# Altium integrated library Molex Modular Jack Right Angle.IntLib: 395 symbols (part 7 of 9)
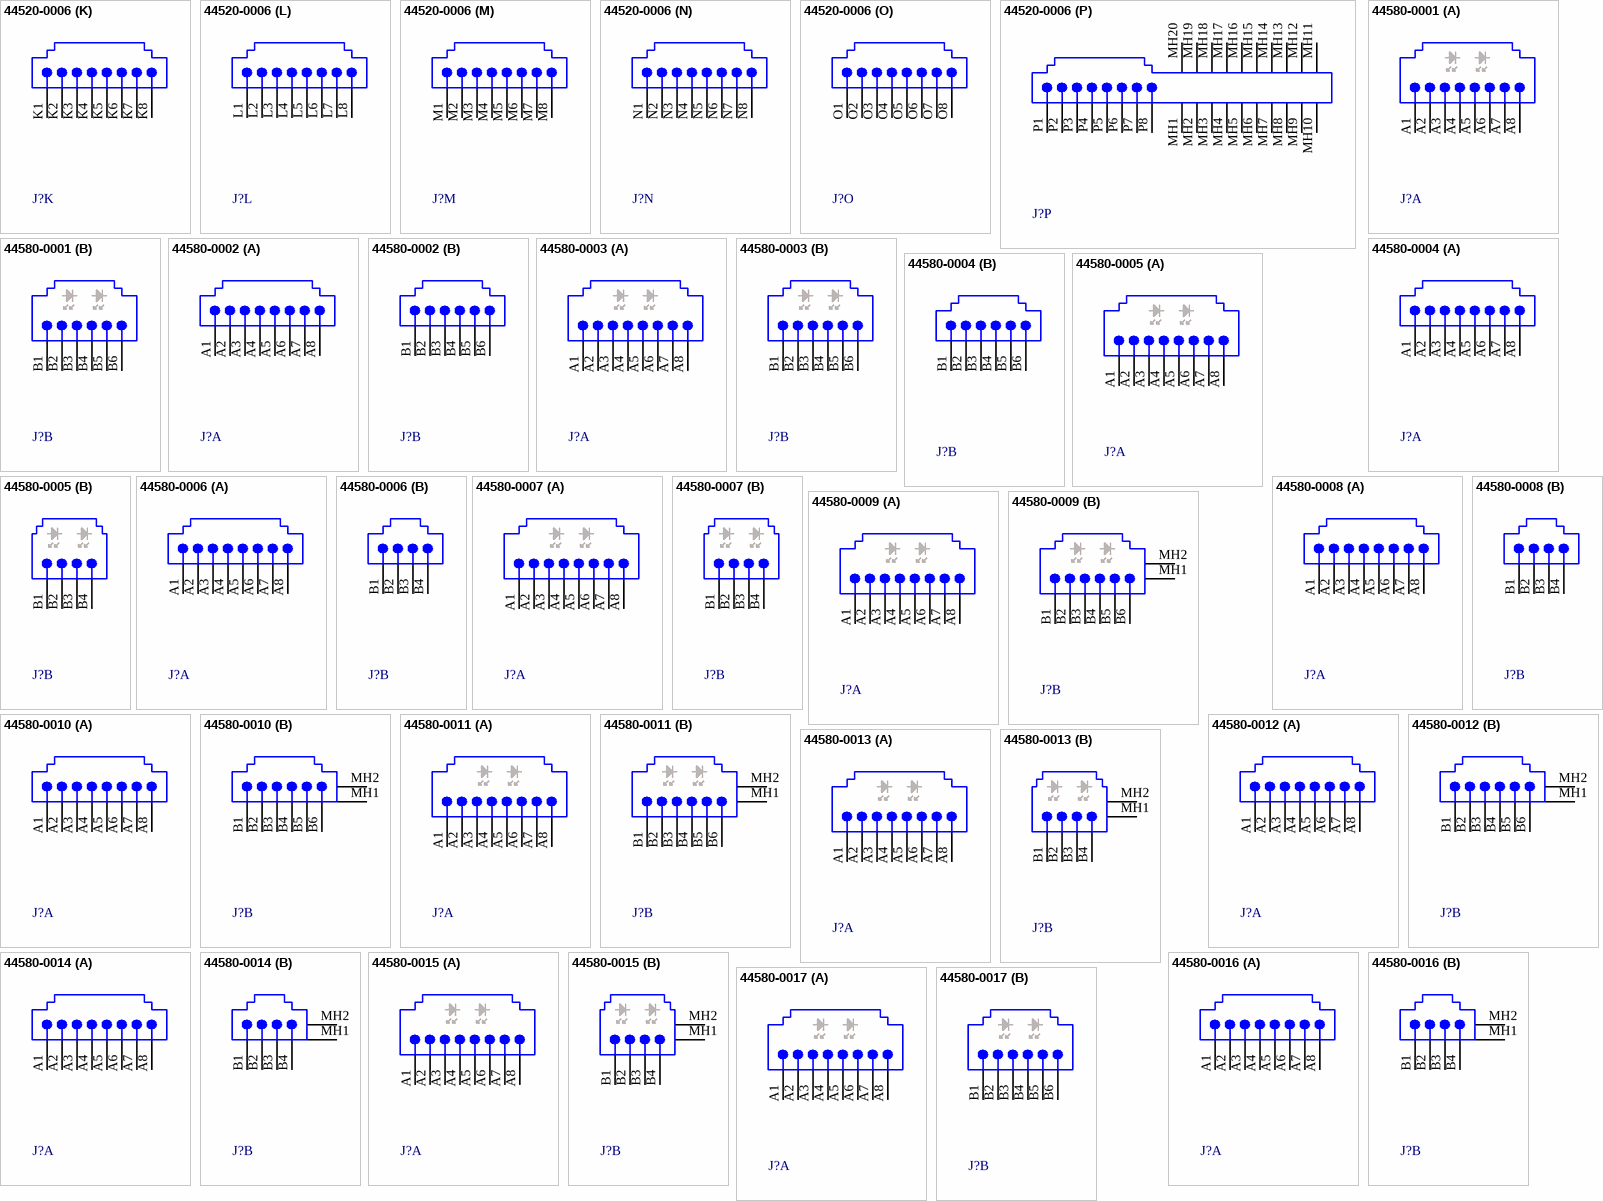
[diagram p30: symbols 44520-0006 to 44580-0017]

## 44580-0001
designator J?
Ganged, Right Angle, Low Profile Inverted, RJ-45/RJ-11 Combination, Snap-Fit, Unshielded with Lightpipes Modular Jack; ManufacturerRecommends: LED Package type 0805 or 0603; Ports: 2; Positions/Loaded: Port1 - 8/8, Port2 - 6/6; PerformanceCategory: 5; PCB_Mounting: Thru-Hole; PCB_Layout: Shows Position of Manufacturer's Recommended SMT LED, Package Type 0805 shown on Mechanical Layer 1.; DrillSize: Nominal, Rounded to nearest 0.05mm; PCB_Layout: Complies with Manufacturer's Recommendation.; Published: 25-Jun-2002; DatasheetDocument: 28-Nov-2001; PackageDocument: 28-Nov-2001; PackageReference: 44580-0001; Publisher: Altium Limited; ComponentLink1Description: Manufacturer Link; ComponentLink1URL: http://www.molex.com/; ComponentLink2Description: Datasheet; ComponentLink2URL: http://www.molex.com/cmc_upload/common_files/1212003_mx44580b.pdf; ComponentLink3Description: Iges Model; ComponentLink3URL: http://www.molex.com/pdm_docs/igs/44580-0001_igs.zip
footprint 44580-0001 (Connector; PCB Jack, Thru-Hole; 2-Port; Unshielded with Lightpipes; Right Angle)
signal-integrity model Modular Jack
part A pins: A1, A2, A3, A4, A5, A6, A7, A8
part B pins: B1, B2, B3, B4, B5, B6

## 44580-0002
designator J?
Ganged, Right Angle, Low Profile Inverted, RJ-45/RJ-11 Combination, Snap-Fit, Unshielded, Modular Jack; Ports: 2; Positions/Loaded: Port1 - 8/8, Port2 - 6/6; PerformanceCategory: 5; PCB_Mounting: Thru-Hole; DrillSize: Nominal, Rounded to nearest 0.05mm; PCB_Layout: Complies with Manufacturer's Recommendation.; Published: 25-Jun-2002; DatasheetDocument: 28-Nov-2001; PackageDocument: 28-Nov-2001; PackageReference: 44580-0002; Publisher: Altium Limited; ComponentLink1Description: Manufacturer Link; ComponentLink1URL: http://www.molex.com/; ComponentLink2Description: Datasheet; ComponentLink2URL: http://www.molex.com/cmc_upload/common_files/1212003_bi0vgsuk_ps.pdf
footprint 44580-0002 (Connector; PCB Jack, Thru-Hole; 2-Port; Unshielded without Lightpipes; Right Angle)
signal-integrity model Modular Jack
part A pins: A1, A2, A3, A4, A5, A6, A7, A8
part B pins: B1, B2, B3, B4, B5, B6

## 44580-0003
designator J?
Ganged, Right Angle, Low Profile Inverted, RJ-45/RJ-11 Combination, Press-Fit, Unshielded with Lightpipes Modular Jack; ManufacturerRecommends: LED Package type 0805 or 0603; Ports: 2; Positions/Loaded: Port1 - 8/8, Port2 - 6/6; PerformanceCategory: 5; PCB_Mounting: Thru-Hole; PCB_Layout: Shows Position of Manufacturer's Recommended SMT LED, Package Type 0805 shown on Mechanical Layer 1.; DrillSize: Nominal, Rounded to nearest 0.05mm; PCB_Layout: Complies with Manufacturer's Recommendation.; Published: 25-Jun-2002; DatasheetDocument: 28-Nov-2001; PackageDocument: 28-Nov-2001; PackageReference: 44580-0003; Publisher: Altium Limited; ComponentLink1Description: Manufacturer Link; ComponentLink1URL: http://www.molex.com/; ComponentLink2Description: Datasheet; ComponentLink2URL: http://www.molex.com/cmc_upload/common_files/1212003_mx44580b.pdf; ComponentLink3Description: Iges Model; ComponentLink3URL: http://www.molex.com/pdm_docs/igs/44580-0001_igs.zip
footprint 44580-0003 (Connector; PCB Jack, Thru-Hole; 2-Port; Unshielded with Lightpipes; Right Angle)
signal-integrity model Modular Jack
part A pins: A1, A2, A3, A4, A5, A6, A7, A8
part B pins: B1, B2, B3, B4, B5, B6

## 44580-0004
designator J?
Ganged, Right Angle, Low Profile Inverted, RJ-45/RJ-11 Combination, Press-Fit, Unshielded, Modular Jack; Ports: 2; Positions/Loaded: Port1 - 8/8, Port2 - 6/6; PerformanceCategory: 5; PCB_Mounting: Thru-Hole; DrillSize: Nominal, Rounded to nearest 0.05mm; PCB_Layout: Complies with Manufacturer's Recommendation.; Published: 25-Jun-2002; DatasheetDocument: 28-Nov-2001; PackageDocument: 28-Nov-2001; PackageReference: 44580-0004; Publisher: Altium Limited; ComponentLink1Description: Manufacturer Link; ComponentLink1URL: http://www.molex.com/; ComponentLink2Description: Datasheet; ComponentLink2URL: http://www.molex.com/cmc_upload/common_files/1212003_bi0vgsuk_ps.pdf
footprint 44580-0004 (Connector; PCB Jack, Thru-Hole; 2-Port; Unshielded without Lightpipes; Right Angle)
signal-integrity model Modular Jack
part A pins: A1, A2, A3, A4, A5, A6, A7, A8
part B pins: B1, B2, B3, B4, B5, B6

## 44580-0005
designator J?
Ganged, Right Angle, Low Profile Inverted, RJ-45/RJ-11 Combination, Snap-Fit, Unshielded with Lightpipes Modular Jack; ManufacturerRecommends: LED Package type 0805 or 0603; Ports: 2; Positions/Loaded: Port1 - 8/8, Port2 - 6/4; PerformanceCategory: 5; PCB_Mounting: Thru-Hole; PCB_Layout: Shows Position of Manufacturer's Recommended SMT LED, Package Type 0805 shown on Mechanical Layer 1.; DrillSize: Nominal, Rounded to nearest 0.05mm; PCB_Layout: Complies with Manufacturer's Recommendation.; Published: 25-Jun-2002; DatasheetDocument: 28-Nov-2001; PackageDocument: 28-Nov-2001; PackageReference: 44580-0005; Publisher: Altium Limited; ComponentLink1Description: Manufacturer Link; ComponentLink1URL: http://www.molex.com/; ComponentLink2Description: Datasheet; ComponentLink2URL: http://www.molex.com/cmc_upload/common_files/1212003_mx44580b.pdf; ComponentLink3Description: Iges Model; ComponentLink3URL: http://www.molex.com/pdm_docs/igs/44580-0001_igs.zip
footprint 44580-0005 (Connector; PCB Jack, Thru-Hole; 2-Port; Unshielded with Lightpipes; Right Angle)
signal-integrity model Modular Jack
part A pins: A1, A2, A3, A4, A5, A6, A7, A8
part B pins: B1, B2, B3, B4

## 44580-0006
designator J?
Ganged, Right Angle, Low Profile Inverted, RJ-45/RJ-11 Combination, Snap-Fit, Unshielded, Modular Jack; Ports: 2; Positions/Loaded: Port1 - 8/8, Port2 - 6/4; PerformanceCategory: 5; PCB_Mounting: Thru-Hole; DrillSize: Nominal, Rounded to nearest 0.05mm; PCB_Layout: Complies with Manufacturer's Recommendation.; Published: 25-Jun-2002; DatasheetDocument: 28-Nov-2001; PackageDocument: 28-Nov-2001; PackageReference: 44580-0006; Publisher: Altium Limited; ComponentLink1Description: Manufacturer Link; ComponentLink1URL: http://www.molex.com/; ComponentLink2Description: Datasheet; ComponentLink2URL: http://www.molex.com/cmc_upload/common_files/1212003_bi0vgsuk_ps.pdf
footprint 44580-0006 (Connector; PCB Jack, Thru-Hole; 2-Port; Unshielded without Lightpipes; Right Angle)
signal-integrity model Modular Jack
part A pins: A1, A2, A3, A4, A5, A6, A7, A8
part B pins: B1, B2, B3, B4

## 44580-0007
designator J?
Ganged, Right Angle, Low Profile Inverted, RJ-45/RJ-11 Combination, Press-Fit, Unshielded with Lightpipes Modular Jack; ManufacturerRecommends: LED Package type 0805 or 0603; Ports: 2; Positions/Loaded: Port1 - 8/8, Port2 - 6/4; PerformanceCategory: 5; PCB_Mounting: Thru-Hole; PCB_Layout: Shows Position of Manufacturer's Recommended SMT LED, Package Type 0805 shown on Mechanical Layer 1.; DrillSize: Nominal, Rounded to nearest 0.05mm; PCB_Layout: Complies with Manufacturer's Recommendation.; Published: 25-Jun-2002; DatasheetDocument: 28-Nov-2001; PackageDocument: 28-Nov-2001; PackageReference: 44580-0007; Publisher: Altium Limited; ComponentLink1Description: Manufacturer Link; ComponentLink1URL: http://www.molex.com/; ComponentLink2Description: Datasheet; ComponentLink2URL: http://www.molex.com/cmc_upload/common_files/1212003_mx44580b.pdf; ComponentLink3Description: Iges Model; ComponentLink3URL: http://www.molex.com/pdm_docs/igs/44580-0001_igs.zip
footprint 44580-0007 (Connector; PCB Jack, Thru-Hole; 2-Port; Unshielded with Lightpipes; Right Angle)
signal-integrity model Modular Jack
part A pins: A1, A2, A3, A4, A5, A6, A7, A8
part B pins: B1, B2, B3, B4

## 44580-0008
designator J?
Ganged, Right Angle, Low Profile Inverted, RJ-45/RJ-11 Combination, Press-Fit, Unshielded, Modular Jack; Ports: 2; Positions/Loaded: Port1 - 8/8, Port2 - 6/4; PerformanceCategory: 5; PCB_Mounting: Thru-Hole; DrillSize: Nominal, Rounded to nearest 0.05mm; PCB_Layout: Complies with Manufacturer's Recommendation.; Published: 25-Jun-2002; DatasheetDocument: 28-Nov-2001; PackageDocument: 28-Nov-2001; PackageReference: 44580-0008; Publisher: Altium Limited; ComponentLink1Description: Manufacturer Link; ComponentLink1URL: http://www.molex.com/; ComponentLink2Description: Datasheet; ComponentLink2URL: http://www.molex.com/cmc_upload/common_files/1212003_bi0vgsuk_ps.pdf
footprint 44580-0008 (Connector; PCB Jack, Thru-Hole; 2-Port; Unshielded without Lightpipes; Right Angle)
signal-integrity model Modular Jack
part A pins: A1, A2, A3, A4, A5, A6, A7, A8
part B pins: B1, B2, B3, B4

## 44580-0009
designator J?
Ganged, Right Angle, Low Profile Inverted, RJ-45/RJ-11 Combination, Snap-Fit, Shielded with Lightpipes Modular Jack; ManufacturerRecommends: LED Package type 0805 or 0603; Ports: 2; Positions/Loaded: Port1 - 8/8, Port2 - 6/6; PerformanceCategory: 5; PCB_Mounting: Thru-Hole; PCB_Layout: Shows Position of Manufacturer's Recommended SMT LED, Package Type 0805 shown on Mechanical Layer 1.; DrillSize: Nominal, Rounded to nearest 0.05mm; PCB_Layout: Complies with Manufacturer's Recommendation.; Published: 25-Jun-2002; DatasheetDocument: 28-Nov-2001; PackageDocument: 28-Nov-2001; PackageReference: 44580-0009; Publisher: Altium Limited; ComponentLink1Description: Manufacturer Link; ComponentLink1URL: http://www.molex.com/; ComponentLink2Description: Datasheet; ComponentLink2URL: http://www.molex.com/cmc_upload/common_files/1212003_mx44580b.pdf; ComponentLink3Description: Iges Model; ComponentLink3URL: http://www.molex.com/pdm_docs/igs/44580-0001_igs.zip
footprint 44580-0009 (Connector; PCB Jack, Thru-Hole; 2-Port; Shielded with Lightpipes; Right Angle)
signal-integrity model Modular Jack
part A pins: A1, A2, A3, A4, A5, A6, A7, A8
part B pins: B1, B2, B3, B4, B5, B6, MH1 Shield, MH2 Shield

## 44580-0010
designator J?
Ganged, Right Angle, Low Profile Inverted, RJ-45/RJ-11 Combination, Snap-Fit, Shielded, Modular Jack; Ports: 2; Positions/Loaded: Port1 - 8/8, Port2 - 6/6; PerformanceCategory: 5; PCB_Mounting: Thru-Hole; DrillSize: Nominal, Rounded to nearest 0.05mm; PCB_Layout: Complies with Manufacturer's Recommendation.; Published: 25-Jun-2002; DatasheetDocument: 28-Nov-2001; PackageDocument: 28-Nov-2001; PackageReference: 44580-0010; Publisher: Altium Limited; ComponentLink1Description: Manufacturer Link; ComponentLink1URL: http://www.molex.com/; ComponentLink2Description: Datasheet; ComponentLink2URL: http://www.molex.com/cmc_upload/common_files/1212003_bi0vgsuk_ps.pdf
footprint 44580-0010 (Connector; PCB Jack, Thru-Hole; 2-Port; Shielded without Lightpipes; Right Angle)
signal-integrity model Modular Jack
part A pins: A1, A2, A3, A4, A5, A6, A7, A8
part B pins: B1, B2, B3, B4, B5, B6, MH1 Shield, MH2 Shield

## 44580-0011
designator J?
Ganged, Right Angle, Low Profile Inverted, RJ-45/RJ-11 Combination, Press-Fit, Shielded with Lightpipes Modular Jack; ManufacturerRecommends: LED Package type 0805 or 0603; Ports: 2; Positions/Loaded: Port1 - 8/8, Port2 - 6/6; PerformanceCategory: 5; PCB_Mounting: Thru-Hole; PCB_Layout: Shows Position of Manufacturer's Recommended SMT LED, Package Type 0805 shown on Mechanical Layer 1.; DrillSize: Nominal, Rounded to nearest 0.05mm; PCB_Layout: Complies with Manufacturer's Recommendation.; Published: 25-Jun-2002; DatasheetDocument: 28-Nov-2001; PackageDocument: 28-Nov-2001; PackageReference: 44580-0011; Publisher: Altium Limited; ComponentLink1Description: Manufacturer Link; ComponentLink1URL: http://www.molex.com/; ComponentLink2Description: Datasheet; ComponentLink2URL: http://www.molex.com/cmc_upload/common_files/1212003_mx44580b.pdf; ComponentLink3Description: Iges Model; ComponentLink3URL: http://www.molex.com/pdm_docs/igs/44580-0001_igs.zip
footprint 44580-0011 (Connector; PCB Jack, Thru-Hole; 2-Port; Shielded with Lightpipes; Right Angle)
signal-integrity model Modular Jack
part A pins: A1, A2, A3, A4, A5, A6, A7, A8
part B pins: B1, B2, B3, B4, B5, B6, MH1 Shield, MH2 Shield

## 44580-0012
designator J?
Ganged, Right Angle, Low Profile Inverted, RJ-45/RJ-11 Combination, Press-Fit, Shielded, Modular Jack; Ports: 2; Positions/Loaded: Port1 - 8/8, Port2 - 6/6; PerformanceCategory: 5; PCB_Mounting: Thru-Hole; DrillSize: Nominal, Rounded to nearest 0.05mm; PCB_Layout: Complies with Manufacturer's Recommendation.; Published: 25-Jun-2002; DatasheetDocument: 28-Nov-2001; PackageDocument: 28-Nov-2001; PackageReference: 44580-0012; Publisher: Altium Limited; ComponentLink1Description: Manufacturer Link; ComponentLink1URL: http://www.molex.com/; ComponentLink2Description: Datasheet; ComponentLink2URL: http://www.molex.com/cmc_upload/common_files/1212003_bi0vgsuk_ps.pdf
footprint 44580-0012 (Connector; PCB Jack, Thru-Hole; 2-Port; Shielded without Lightpipes; Right Angle)
signal-integrity model Modular Jack
part A pins: A1, A2, A3, A4, A5, A6, A7, A8
part B pins: B1, B2, B3, B4, B5, B6, MH1 Shield, MH2 Shield

## 44580-0013
designator J?
Ganged, Right Angle, Low Profile Inverted, RJ-45/RJ-11 Combination, Snap-Fit, Shielded with Lightpipes Modular Jack; ManufacturerRecommends: LED Package type 0805 or 0603; Ports: 2; Positions/Loaded: Port1 - 8/8, Port2 - 6/4; PerformanceCategory: 5; PCB_Mounting: Thru-Hole; PCB_Layout: Shows Position of Manufacturer's Recommended SMT LED, Package Type 0805 shown on Mechanical Layer 1.; DrillSize: Nominal, Rounded to nearest 0.05mm; PCB_Layout: Complies with Manufacturer's Recommendation.; Published: 25-Jun-2002; DatasheetDocument: 28-Nov-2001; PackageDocument: 28-Nov-2001; PackageReference: 44580-0013; Publisher: Altium Limited; ComponentLink1Description: Manufacturer Link; ComponentLink1URL: http://www.molex.com/; ComponentLink2Description: Datasheet; ComponentLink2URL: http://www.molex.com/cmc_upload/common_files/1212003_mx44580b.pdf; ComponentLink3Description: Iges Model; ComponentLink3URL: http://www.molex.com/pdm_docs/igs/44580-0001_igs.zip
footprint 44580-0013 (Connector; PCB Jack, Thru-Hole; 2-Port; Shielded with Lightpipes; Right Angle)
signal-integrity model Modular Jack
part A pins: A1, A2, A3, A4, A5, A6, A7, A8
part B pins: B1, B2, B3, B4, MH1 Shield, MH2 Shield

## 44580-0014
designator J?
Ganged, Right Angle, Low Profile Inverted, RJ-45/RJ-11 Combination, Snap-Fit, Shielded, Modular Jack; Ports: 2; Positions/Loaded: Port1 - 8/8, Port2 - 6/4; PerformanceCategory: 5; PCB_Mounting: Thru-Hole; DrillSize: Nominal, Rounded to nearest 0.05mm; PCB_Layout: Complies with Manufacturer's Recommendation.; Published: 25-Jun-2002; DatasheetDocument: 28-Nov-2001; PackageDocument: 28-Nov-2001; PackageReference: 44580-0014; Publisher: Altium Limited; ComponentLink1Description: Manufacturer Link; ComponentLink1URL: http://www.molex.com/; ComponentLink2Description: Datasheet; ComponentLink2URL: http://www.molex.com/cmc_upload/common_files/1212003_bi0vgsuk_ps.pdf
footprint 44580-0014 (Connector; PCB Jack, Thru-Hole; 2-Port; Shielded without Lightpipes; Right Angle)
signal-integrity model Modular Jack
part A pins: A1, A2, A3, A4, A5, A6, A7, A8
part B pins: B1, B2, B3, B4, MH1 Shield, MH2 Shield

## 44580-0015
designator J?
Ganged, Right Angle, Low Profile Inverted, RJ-45/RJ-11 Combination, Press-Fit, Shielded with Lightpipes Modular Jack; ManufacturerRecommends: LED Package type 0805 or 0603; Ports: 2; Positions/Loaded: Port1 - 8/8, Port2 - 6/4; PerformanceCategory: 5; PCB_Mounting: Thru-Hole; PCB_Layout: Shows Position of Manufacturer's Recommended SMT LED, Package Type 0805 shown on Mechanical Layer 1.; DrillSize: Nominal, Rounded to nearest 0.05mm; PCB_Layout: Complies with Manufacturer's Recommendation.; Published: 25-Jun-2002; DatasheetDocument: 28-Nov-2001; PackageDocument: 28-Nov-2001; PackageReference: 44580-0015; Publisher: Altium Limited; ComponentLink1Description: Manufacturer Link; ComponentLink1URL: http://www.molex.com/; ComponentLink2Description: Datasheet; ComponentLink2URL: http://www.molex.com/cmc_upload/common_files/1212003_mx44580b.pdf; ComponentLink3Description: Iges Model; ComponentLink3URL: http://www.molex.com/pdm_docs/igs/44580-0001_igs.zip
footprint 44580-0015 (Connector; PCB Jack, Thru-Hole; 2-Port; Shielded with Lightpipes; Right Angle)
signal-integrity model Modular Jack
part A pins: A1, A2, A3, A4, A5, A6, A7, A8
part B pins: B1, B2, B3, B4, MH1 Shield, MH2 Shield

## 44580-0016
designator J?
Ganged, Right Angle, Low Profile Inverted, RJ-45/RJ-11 Combination, Press-Fit, Shielded, Modular Jack; Ports: 2; Positions/Loaded: Port1 - 8/8, Port2 - 6/4; PerformanceCategory: 5; PCB_Mounting: Thru-Hole; DrillSize: Nominal, Rounded to nearest 0.05mm; PCB_Layout: Complies with Manufacturer's Recommendation.; Published: 25-Jun-2002; DatasheetDocument: 28-Nov-2001; PackageDocument: 28-Nov-2001; PackageReference: 44580-0016; Publisher: Altium Limited; ComponentLink1Description: Manufacturer Link; ComponentLink1URL: http://www.molex.com/; ComponentLink2Description: Datasheet; ComponentLink2URL: http://www.molex.com/cmc_upload/common_files/1212003_bi0vgsuk_ps.pdf
footprint 44580-0016 (Connector; PCB Jack, Thru-Hole; 2-Port; Shielded without Lightpipes; Right Angle)
signal-integrity model Modular Jack
part A pins: A1, A2, A3, A4, A5, A6, A7, A8
part B pins: B1, B2, B3, B4, MH1 Shield, MH2 Shield

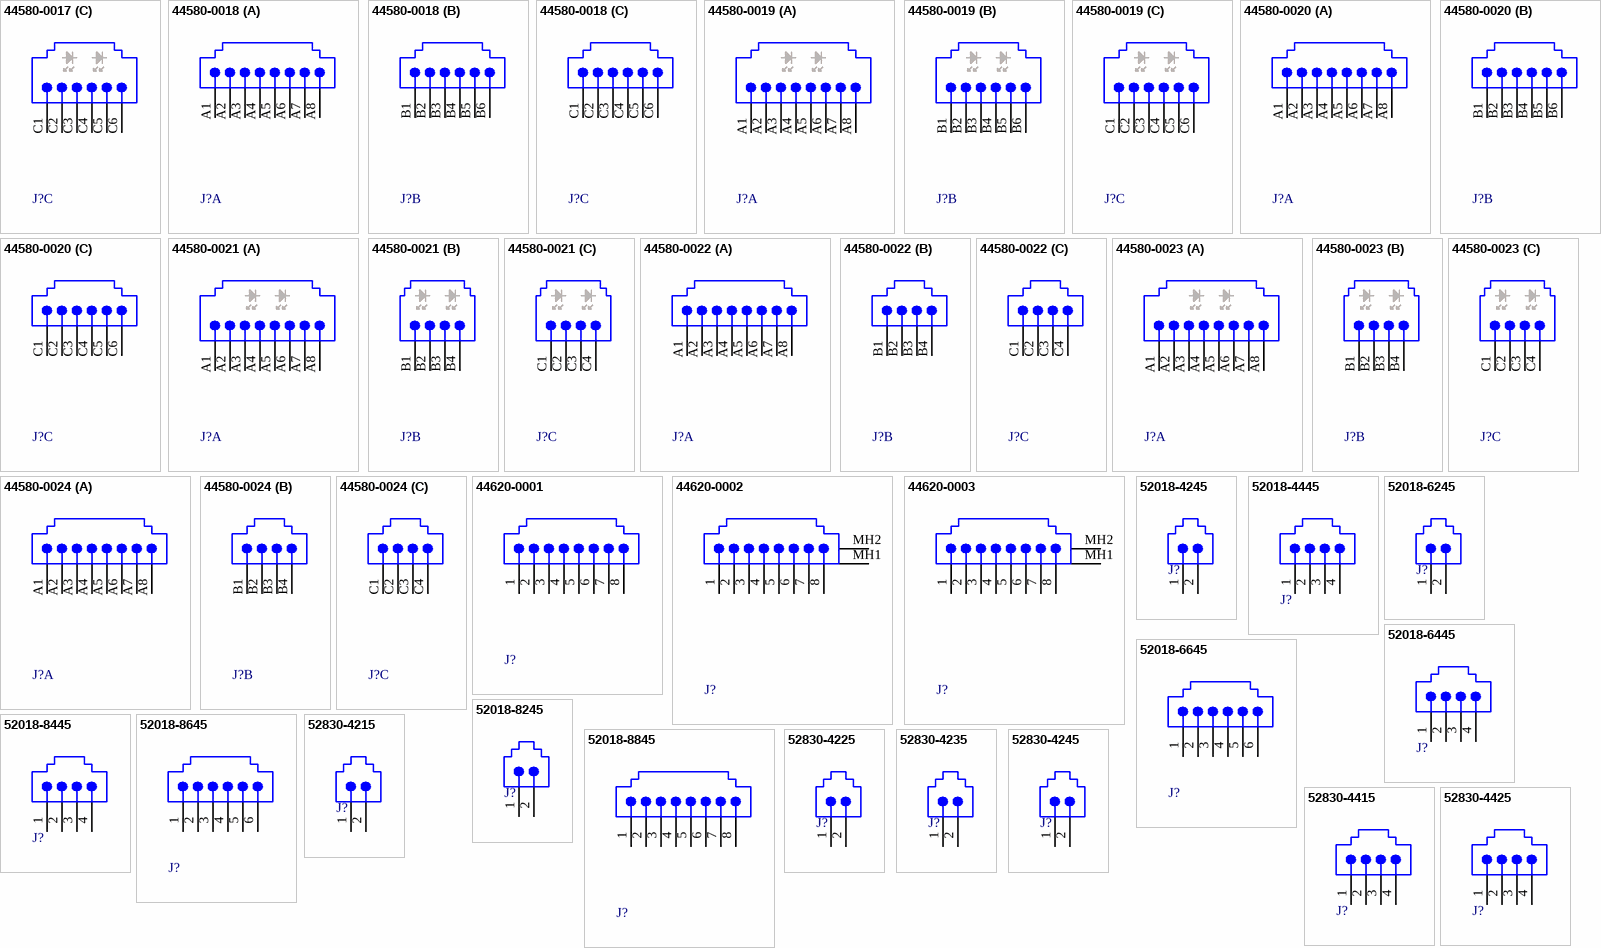
[diagram p22: symbols 44580-0017 to 52830-4425]

## 44580-0017
designator J?
Ganged, Right Angle, Low Profile Inverted, RJ-45/RJ-11 Combination, Snap-Fit, Unshielded with Lightpipes Modular Jack; ManufacturerRecommends: LED Package type 0805 or 0603; Ports: 3; Positions/Loaded: Port1 - 8/8, Port2 - 6/6, Port3 - 6/6; PerformanceCategory: 5; PCB_Mounting: Thru-Hole; PCB_Layout: Shows Position of Manufacturer's Recommended SMT LED, Package Type 0805 shown on Mechanical Layer 1.; DrillSize: Nominal, Rounded to nearest 0.05mm; PCB_Layout: Complies with Manufacturer's Recommendation.; Published: 25-Jun-2002; DatasheetDocument: 28-Nov-2001; PackageDocument: 28-Nov-2001; PackageReference: 44580-0017; Publisher: Altium Limited; ComponentLink1Description: Manufacturer Link; ComponentLink1URL: http://www.molex.com/; ComponentLink2Description: Datasheet; ComponentLink2URL: http://www.molex.com/cmc_upload/common_files/1212003_mx44580b.pdf; ComponentLink3Description: Iges Model; ComponentLink3URL: http://www.molex.com/pdm_docs/igs/44580-0001_igs.zip
footprint 44580-0017 (Connector; PCB Jack, Thru-Hole; 3-Port; Unshielded with Lightpipes; Right Angle)
signal-integrity model Modular Jack
part A pins: A1, A2, A3, A4, A5, A6, A7, A8
part B pins: B1, B2, B3, B4, B5, B6
part C pins: C1, C2, C3, C4, C5, C6

## 44580-0018
designator J?
Ganged, Right Angle, Low Profile Inverted, RJ-45/RJ-11 Combination, Snap-Fit, Unshielded, Modular Jack; Ports: 3; Positions/Loaded: Port1 - 8/8, Port2 - 6/6, Port3 - 6/6; PerformanceCategory: 5; PCB_Mounting: Thru-Hole; DrillSize: Nominal, Rounded to nearest 0.05mm; PCB_Layout: Complies with Manufacturer's Recommendation.; Published: 25-Jun-2002; DatasheetDocument: 28-Nov-2001; PackageDocument: 28-Nov-2001; PackageReference: 44580-0018; Publisher: Altium Limited; ComponentLink1Description: Manufacturer Link; ComponentLink1URL: http://www.molex.com/; ComponentLink2Description: Datasheet; ComponentLink2URL: http://www.molex.com/cmc_upload/common_files/1212003_bi0vgsuk_ps.pdf
footprint 44580-0018 (Connector; PCB Jack, Thru-Hole; 3-Port; Unshielded without Lightpipes; Right Angle)
signal-integrity model Modular Jack
part A pins: A1, A2, A3, A4, A5, A6, A7, A8
part B pins: B1, B2, B3, B4, B5, B6
part C pins: C1, C2, C3, C4, C5, C6

## 44580-0019
designator J?
Ganged, Right Angle, Low Profile Inverted, RJ-45/RJ-11 Combination, Press-Fit, Unshielded with Lightpipes Modular Jack; ManufacturerRecommends: LED Package type 0805 or 0603; Ports: 3; Positions/Loaded: Port1 - 8/8, Port2 - 6/6, Port3 - 6/6; PerformanceCategory: 5; PCB_Mounting: Thru-Hole; PCB_Layout: Shows Position of Manufacturer's Recommended SMT LED, Package Type 0805 shown on Mechanical Layer 1.; DrillSize: Nominal, Rounded to nearest 0.05mm; PCB_Layout: Complies with Manufacturer's Recommendation.; Published: 25-Jun-2002; DatasheetDocument: 28-Nov-2001; PackageDocument: 28-Nov-2001; PackageReference: 44580-0019; Publisher: Altium Limited; ComponentLink1Description: Manufacturer Link; ComponentLink1URL: http://www.molex.com/; ComponentLink2Description: Datasheet; ComponentLink2URL: http://www.molex.com/cmc_upload/common_files/1212003_mx44580b.pdf; ComponentLink3Description: Iges Model; ComponentLink3URL: http://www.molex.com/pdm_docs/igs/44580-0001_igs.zip
footprint 44580-0019 (Connector; PCB Jack, Thru-Hole; 3-Port; Unshielded with Lightpipes; Right Angle)
signal-integrity model Modular Jack
part A pins: A1, A2, A3, A4, A5, A6, A7, A8
part B pins: B1, B2, B3, B4, B5, B6
part C pins: C1, C2, C3, C4, C5, C6

## 44580-0020
designator J?
Ganged, Right Angle, Low Profile Inverted, RJ-45/RJ-11 Combination, Press-Fit, Unshielded, Modular Jack; Ports: 3; Positions/Loaded: Port1 - 8/8, Port2 - 6/6, Port3 - 6/6; PerformanceCategory: 5; PCB_Mounting: Thru-Hole; DrillSize: Nominal, Rounded to nearest 0.05mm; PCB_Layout: Complies with Manufacturer's Recommendation.; Published: 25-Jun-2002; DatasheetDocument: 28-Nov-2001; PackageDocument: 28-Nov-2001; PackageReference: 44580-0020; Publisher: Altium Limited; ComponentLink1Description: Manufacturer Link; ComponentLink1URL: http://www.molex.com/; ComponentLink2Description: Datasheet; ComponentLink2URL: http://www.molex.com/cmc_upload/common_files/1212003_bi0vgsuk_ps.pdf
footprint 44580-0020 (Connector; PCB Jack, Thru-Hole; 3-Port; Unshielded without Lightpipes; Right Angle)
signal-integrity model Modular Jack
part A pins: A1, A2, A3, A4, A5, A6, A7, A8
part B pins: B1, B2, B3, B4, B5, B6
part C pins: C1, C2, C3, C4, C5, C6

## 44580-0021
designator J?
Ganged, Right Angle, Low Profile Inverted, RJ-45/RJ-11 Combination, Snap-Fit, Unshielded with Lightpipes Modular Jack; ManufacturerRecommends: LED Package type 0805 or 0603; Ports: 3; Positions/Loaded: Port1 - 8/8, Port2 - 6/4, Port3 - 6/4; PerformanceCategory: 5; PCB_Mounting: Thru-Hole; PCB_Layout: Shows Position of Manufacturer's Recommended SMT LED, Package Type 0805 shown on Mechanical Layer 1.; DrillSize: Nominal, Rounded to nearest 0.05mm; PCB_Layout: Complies with Manufacturer's Recommendation.; Published: 25-Jun-2002; DatasheetDocument: 28-Nov-2001; PackageDocument: 28-Nov-2001; PackageReference: 44580-0021; Publisher: Altium Limited; ComponentLink1Description: Manufacturer Link; ComponentLink1URL: http://www.molex.com/; ComponentLink2Description: Datasheet; ComponentLink2URL: http://www.molex.com/cmc_upload/common_files/1212003_mx44580b.pdf; ComponentLink3Description: Iges Model; ComponentLink3URL: http://www.molex.com/pdm_docs/igs/44580-0001_igs.zip
footprint 44580-0021 (Connector; PCB Jack, Thru-Hole; 3-Port; Unshielded with Lightpipes; Right Angle)
signal-integrity model Modular Jack
part A pins: A1, A2, A3, A4, A5, A6, A7, A8
part B pins: B1, B2, B3, B4
part C pins: C1, C2, C3, C4

## 44580-0022
designator J?
Ganged, Right Angle, Low Profile Inverted, RJ-45/RJ-11 Combination, Snap-Fit, Unshielded, Modular Jack; Ports: 3; Positions/Loaded: Port1 - 8/8, Port2 - 6/4, Port3 - 6/4; PerformanceCategory: 5; PCB_Mounting: Thru-Hole; DrillSize: Nominal, Rounded to nearest 0.05mm; PCB_Layout: Complies with Manufacturer's Recommendation.; Published: 25-Jun-2002; DatasheetDocument: 28-Nov-2001; PackageDocument: 28-Nov-2001; PackageReference: 44580-0022; Publisher: Altium Limited; ComponentLink1Description: Manufacturer Link; ComponentLink1URL: http://www.molex.com/; ComponentLink2Description: Datasheet; ComponentLink2URL: http://www.molex.com/cmc_upload/common_files/1212003_bi0vgsuk_ps.pdf
footprint 44580-0022 (Connector; PCB Jack, Thru-Hole; 3-Port; Unshielded without Lightpipes; Right Angle)
signal-integrity model Modular Jack
part A pins: A1, A2, A3, A4, A5, A6, A7, A8
part B pins: B1, B2, B3, B4
part C pins: C1, C2, C3, C4

## 44580-0023
designator J?
Ganged, Right Angle, Low Profile Inverted, RJ-45/RJ-11 Combination, Press-Fit, Unshielded with Lightpipes Modular Jack; ManufacturerRecommends: LED Package type 0805 or 0603; Ports: 3; Positions/Loaded: Port1 - 8/8, Port2 - 6/4, Port3 - 6/4; PerformanceCategory: 5; PCB_Mounting: Thru-Hole; PCB_Layout: Shows Position of Manufacturer's Recommended SMT LED, Package Type 0805 shown on Mechanical Layer 1.; DrillSize: Nominal, Rounded to nearest 0.05mm; PCB_Layout: Complies with Manufacturer's Recommendation.; Published: 25-Jun-2002; DatasheetDocument: 28-Nov-2001; PackageDocument: 28-Nov-2001; PackageReference: 44580-0023; Publisher: Altium Limited; ComponentLink1Description: Manufacturer Link; ComponentLink1URL: http://www.molex.com/; ComponentLink2Description: Datasheet; ComponentLink2URL: http://www.molex.com/cmc_upload/common_files/1212003_mx44580b.pdf; ComponentLink3Description: Iges Model; ComponentLink3URL: http://www.molex.com/pdm_docs/igs/44580-0001_igs.zip
footprint 44580-0023 (Connector; PCB Jack, Thru-Hole; 3-Port; Unshielded with Lightpipes; Right Angle)
signal-integrity model Modular Jack
part A pins: A1, A2, A3, A4, A5, A6, A7, A8
part B pins: B1, B2, B3, B4
part C pins: C1, C2, C3, C4

## 44580-0024
designator J?
Ganged, Right Angle, Low Profile Inverted, RJ-45/RJ-11 Combination, Press-Fit, Unshielded, Modular Jack; Ports: 3; Positions/Loaded: Port1 - 8/8, Port2 - 6/4, Port3 - 6/4; PerformanceCategory: 5; PCB_Mounting: Thru-Hole; DrillSize: Nominal, Rounded to nearest 0.05mm; PCB_Layout: Complies with Manufacturer's Recommendation.; Published: 25-Jun-2002; DatasheetDocument: 28-Nov-2001; PackageDocument: 28-Nov-2001; PackageReference: 44580-0024; Publisher: Altium Limited; ComponentLink1Description: Manufacturer Link; ComponentLink1URL: http://www.molex.com/; ComponentLink2Description: Datasheet; ComponentLink2URL: http://www.molex.com/cmc_upload/common_files/1212003_bi0vgsuk_ps.pdf; ComponentLink3Description: Iges Model; ComponentLink3URL: http://www.molex.com/pdm_docs/igs/44580-0002_igs.zip
footprint 44580-0024 (Connector; PCB Jack, Thru-Hole; 3-Port; Unshielded without Lightpipes; Right Angle)
signal-integrity model Modular Jack
part A pins: A1, A2, A3, A4, A5, A6, A7, A8
part B pins: B1, B2, B3, B4
part C pins: C1, C2, C3, C4

## 44620-0001
designator J?
Modular Jack , Right Angle RJ-45, Low Profile, Inverted, Unshielded with RJ-11 Keepout Feature; Ports: 1; Positions/Loaded: Port1 - 8/8; PerformanceCategory: 5; PCB_Mounting: Thru-Hole; DrillSize: Nominal, Rounded to nearest 0.05mm; PCB_Layout: Complies with Manufacturer's Recommendation.; Published: 25-Jun-2002; DatasheetDocument: 13-Dec-2001; PackageDocument: 13-Dec-2001; PackageReference: 44620-0001; Publisher: Altium Limited; ComponentLink1Description: Manufacturer Link; ComponentLink1URL: http://www.molex.com/; ComponentLink2Description: Datasheet; ComponentLink2URL: http://www.molex.com/cmc_upload/common_files/1212003_mx44620.pdf; ComponentLink3Description: Iges Model; ComponentLink3URL: http://www.molex.com/pdm_docs/igs/44620-0001_igs.zip
footprint 44620-0001 (Connector; PCB Jack, Thru-Hole; 1-Port, 8 Positions, 8 Loaded; Unshielded without Lightpipes; Right Angle)
signal-integrity model Modular Jack
pins: 1, 2, 3, 4, 5, 6, 7, 8

## 44620-0002
designator J?
Modular Jack , Right Angle RJ-45, Low Profile, Inverted, with all Panel Grounding Tabs, Shielded with RJ-11 Keepout Feature; Ports: 1; Positions/Loaded: Port1 - 8/8; PerformanceCategory: 5; PCB_Mounting: Thru-Hole; DrillSize: Nominal, Rounded to nearest 0.05mm; PCB_Layout: Complies with Manufacturer's Recommendation.; Published: 25-Jun-2002; DatasheetDocument: 13-Dec-2001; PackageDocument: 13-Dec-2001; PackageReference: 44620-0002; Publisher: Altium Limited; ComponentLink1Description: Manufacturer Link; ComponentLink1URL: http://www.molex.com/; ComponentLink2Description: Datasheet; ComponentLink2URL: http://www.molex.com/cmc_upload/common_files/1212003_mx44620.pdf; ComponentLink3Description: Iges Model; ComponentLink3URL: http://www.molex.com/pdm_docs/igs/44620-0001_igs.zip
footprint 44620-0002 (Connector; PCB Jack, Thru-Hole; 1-Port, 8 Positions, 8 Loaded; Shielded without Lightpipes; Right Angle)
signal-integrity model Modular Jack
pins: 1, 2, 3, 4, 5, 6, 7, 8, MH1 Shield, MH2 Shield

## 44620-0003
designator J?
Modular Jack , Right Angle RJ-45, Low Profile, Inverted, with offset Panel Grounding Tabs, Shielded with RJ-11 Keepout Feature; Ports: 1; Positions/Loaded: Port1 - 8/8; PerformanceCategory: 5; PCB_Mounting: Thru-Hole; DrillSize: Nominal, Rounded to nearest 0.05mm; PCB_Layout: Complies with Manufacturer's Recommendation.; Published: 25-Jun-2002; DatasheetDocument: 13-Dec-2001; PackageDocument: 13-Dec-2001; PackageReference: 44620-0003; Publisher: Altium Limited; ComponentLink1Description: Manufacturer Link; ComponentLink1URL: http://www.molex.com/; ComponentLink2Description: Datasheet; ComponentLink2URL: http://www.molex.com/cmc_upload/common_files/1212003_mx44620.pdf; ComponentLink3Description: Iges Model; ComponentLink3URL: http://www.molex.com/pdm_docs/igs/44620-0001_igs.zip
footprint 44620-0003 (Connector; PCB Jack, Thru-Hole; 1-Port, 8 Positions, 8 Loaded; Shielded without Lightpipes; Right Angle)
signal-integrity model Modular Jack
pins: 1, 2, 3, 4, 5, 6, 7, 8, MH1 Shield, MH2 Shield

## 52018-4245
designator J?
Right Angle, Standard Profile, Inverted PCB Jack; Ports: 1; Positions/Loaded: Port1 - 4/2; PerformanceCategory: 3; PCB_Mounting: Thru-Hole; DrillSize: Nominal, Rounded to nearest 0.05mm; PCB_Layout: Complies with Manufacturer's Recommendation.; Published: 25-Jun-2002; DatasheetDocument: 18-Dec-2001; PackageDocument: 18-Dec-2001; PackageReference: 52018-4245; Publisher: Altium Limited; ComponentLink1Description: Manufacturer Link; ComponentLink1URL: http://www.molex.com/; ComponentLink2Description: Datasheet; ComponentLink2URL: http://www.molex.com/cmc_upload/common_files/1212003_mx52018.pdf; ComponentLink3Description: Iges Model; ComponentLink3URL: http://www.molex.com/pdm_docs/igs/52018-4245_igs.zip
footprint 52018-4245 (Connector; PCB Jack, Thru-Hole; 1-Port, 4 Positions, 2 Loaded; Unshielded without Lightpipes; Right Angle)
signal-integrity model Modular Jack
pins: 1, 2

## 52018-4445
designator J?
Right Angle, Standard Profile, Inverted PCB Jack; Ports: 1; Positions/Loaded: Port1 - 4/4; PerformanceCategory: 3; PCB_Mounting: Thru-Hole; DrillSize: Nominal, Rounded to nearest 0.05mm; PCB_Layout: Complies with Manufacturer's Recommendation.; Published: 25-Jun-2002; DatasheetDocument: 18-Dec-2001; PackageDocument: 18-Dec-2001; PackageReference: 52018-4445; Publisher: Altium Limited; ComponentLink1Description: Manufacturer Link; ComponentLink1URL: http://www.molex.com/; ComponentLink2Description: Datasheet; ComponentLink2URL: http://www.molex.com/cmc_upload/common_files/1212003_mx52018.pdf; ComponentLink3Description: Iges Model; ComponentLink3URL: http://www.molex.com/pdm_docs/igs/52018-4245_igs.zip
footprint 52018-4445 (Connector; PCB Jack, Thru-Hole; 1-Port, 4 Positions, 4 Loaded; Unshielded without Lightpipes; Right Angle)
signal-integrity model Modular Jack
pins: 1, 2, 3, 4

## 52018-6245
designator J?
Right Angle, Standard Profile, Inverted PCB Jack; Ports: 1; Positions/Loaded: Port1 - 6/2; PerformanceCategory: 3; PCB_Mounting: Thru-Hole; DrillSize: Nominal, Rounded to nearest 0.05mm; PCB_Layout: Complies with Manufacturer's Recommendation.; Published: 25-Jun-2002; DatasheetDocument: 18-Dec-2001; PackageDocument: 18-Dec-2001; PackageReference: 52018-6245; Publisher: Altium Limited; ComponentLink1Description: Manufacturer Link; ComponentLink1URL: http://www.molex.com/; ComponentLink2Description: Datasheet; ComponentLink2URL: http://www.molex.com/cmc_upload/common_files/1212003_mx52018.pdf; ComponentLink3Description: Iges Model; ComponentLink3URL: http://www.molex.com/pdm_docs/igs/52018-4245_igs.zip
footprint 52018-6245 (Connector; PCB Jack, Thru-Hole; 1-Port, 6 Positions, 2 Loaded; Unshielded without Lightpipes; Right Angle)
signal-integrity model Modular Jack
pins: 1, 2

## 52018-6445
designator J?
Right Angle, Standard Profile, Inverted PCB Jack; Ports: 1; Positions/Loaded: Port1 - 6/4; PerformanceCategory: 3; PCB_Mounting: Thru-Hole; DrillSize: Nominal, Rounded to nearest 0.05mm; PCB_Layout: Complies with Manufacturer's Recommendation.; Published: 25-Jun-2002; DatasheetDocument: 18-Dec-2001; PackageDocument: 18-Dec-2001; PackageReference: 52018-6445; Publisher: Altium Limited; ComponentLink1Description: Manufacturer Link; ComponentLink1URL: http://www.molex.com/; ComponentLink2Description: Datasheet; ComponentLink2URL: http://www.molex.com/cmc_upload/common_files/1212003_mx52018.pdf; ComponentLink3Description: Iges Model; ComponentLink3URL: http://www.molex.com/pdm_docs/igs/52018-4245_igs.zip
footprint 52018-6445 (Connector; PCB Jack, Thru-Hole; 1-Port, 6 Positions, 4 Loaded; Unshielded without Lightpipes; Right Angle)
signal-integrity model Modular Jack
pins: 1, 2, 3, 4

## 52018-6645
designator J?
Right Angle, Standard Profile, Inverted PCB Jack; Ports: 1; Positions/Loaded: Port1 - 6/6; PerformanceCategory: 3; PCB_Mounting: Thru-Hole; DrillSize: Nominal, Rounded to nearest 0.05mm; PCB_Layout: Complies with Manufacturer's Recommendation.; Published: 25-Jun-2002; DatasheetDocument: 18-Dec-2001; PackageDocument: 18-Dec-2001; PackageReference: 52018-6645; Publisher: Altium Limited; ComponentLink1Description: Manufacturer Link; ComponentLink1URL: http://www.molex.com/; ComponentLink2Description: Datasheet; ComponentLink2URL: http://www.molex.com/cmc_upload/common_files/1212003_mx52018.pdf; ComponentLink3Description: Iges Model; ComponentLink3URL: http://www.molex.com/pdm_docs/igs/52018-4245_igs.zip
footprint 52018-6645 (Connector; PCB Jack, Thru-Hole; 1-Port, 6 Positions, 6 Loaded; Unshielded without Lightpipes; Right Angle)
signal-integrity model Modular Jack
pins: 1, 2, 3, 4, 5, 6

## 52018-8245
designator J?
Right Angle, Standard Profile, Inverted PCB Jack; Ports: 1; Positions/Loaded: Port1 - 8/2; PerformanceCategory: 3; PCB_Mounting: Thru-Hole; DrillSize: Nominal, Rounded to nearest 0.05mm; PCB_Layout: Complies with Manufacturer's Recommendation.; Published: 25-Jun-2002; DatasheetDocument: 18-Dec-2001; PackageDocument: 18-Dec-2001; PackageReference: 52018-8245; Publisher: Altium Limited; ComponentLink1Description: Manufacturer Link; ComponentLink1URL: http://www.molex.com/; ComponentLink2Description: Datasheet; ComponentLink2URL: http://www.molex.com/cmc_upload/common_files/1212003_mx52018.pdf; ComponentLink3Description: Iges Model; ComponentLink3URL: http://www.molex.com/pdm_docs/igs/52018-4245_igs.zip
footprint 52018-8245 (Connector; PCB Jack, Thru-Hole; 1-Port, 8 Positions, 2 Loaded; Unshielded without Lightpipes; Right Angle)
signal-integrity model Modular Jack
pins: 1, 2

## 52018-8445
designator J?
Right Angle, Standard Profile, Inverted PCB Jack; Ports: 1; Positions/Loaded: Port1 - 8/4; PerformanceCategory: 3; PCB_Mounting: Thru-Hole; DrillSize: Nominal, Rounded to nearest 0.05mm; PCB_Layout: Complies with Manufacturer's Recommendation.; Published: 25-Jun-2002; DatasheetDocument: 18-Dec-2001; PackageDocument: 18-Dec-2001; PackageReference: 52018-8445; Publisher: Altium Limited; ComponentLink1Description: Manufacturer Link; ComponentLink1URL: http://www.molex.com/; ComponentLink2Description: Datasheet; ComponentLink2URL: http://www.molex.com/cmc_upload/common_files/1212003_mx52018.pdf; ComponentLink3Description: Iges Model; ComponentLink3URL: http://www.molex.com/pdm_docs/igs/52018-4245_igs.zip
footprint 52018-8445 (Connector; PCB Jack, Thru-Hole; 1-Port, 8 Positions, 4 Loaded; Unshielded without Lightpipes; Right Angle)
signal-integrity model Modular Jack
pins: 1, 2, 3, 4

## 52018-8645
designator J?
Right Angle, Standard Profile, Inverted PCB Jack; Ports: 1; Positions/Loaded: Port1 - 8/6; PerformanceCategory: 3; PCB_Mounting: Thru-Hole; DrillSize: Nominal, Rounded to nearest 0.05mm; PCB_Layout: Complies with Manufacturer's Recommendation.; Published: 25-Jun-2002; DatasheetDocument: 18-Dec-2001; PackageDocument: 18-Dec-2001; PackageReference: 52018-8645; Publisher: Altium Limited; ComponentLink1Description: Manufacturer Link; ComponentLink1URL: http://www.molex.com/; ComponentLink2Description: Datasheet; ComponentLink2URL: http://www.molex.com/cmc_upload/common_files/1212003_mx52018.pdf; ComponentLink3Description: Iges Model; ComponentLink3URL: http://www.molex.com/pdm_docs/igs/52018-4245_igs.zip
footprint 52018-8645 (Connector; PCB Jack, Thru-Hole; 1-Port, 8 Positions, 6 Loaded; Unshielded without Lightpipes; Right Angle)
signal-integrity model Modular Jack
pins: 1, 2, 3, 4, 5, 6

## 52018-8845
designator J?
Right Angle, Standard Profile, Inverted PCB Jack; Ports: 1; Positions/Loaded: Port1 - 8/8; PerformanceCategory: 3; PCB_Mounting: Thru-Hole; DrillSize: Nominal, Rounded to nearest 0.05mm; PCB_Layout: Complies with Manufacturer's Recommendation.; Published: 25-Jun-2002; DatasheetDocument: 18-Dec-2001; PackageDocument: 18-Dec-2001; PackageReference: 52018-8845; Publisher: Altium Limited; ComponentLink1Description: Manufacturer Link; ComponentLink1URL: http://www.molex.com/; ComponentLink2Description: Datasheet; ComponentLink2URL: http://www.molex.com/cmc_upload/common_files/1212003_mx52018.pdf; ComponentLink3Description: Iges Model; ComponentLink3URL: http://www.molex.com/pdm_docs/igs/52018-4245_igs.zip
footprint 52018-8845 (Connector; PCB Jack, Thru-Hole; 1-Port, 8 Positions, 8 Loaded; Unshielded without Lightpipes; Right Angle)
signal-integrity model Modular Jack
pins: 1, 2, 3, 4, 5, 6, 7, 8

## 52830-4215
designator J?
Right Angle, Standard Profile, with Metal Peg PCB Jack; Ports: 1; Positions/Loaded: Port1 - 4/2; PerformanceCategory: 3; PCB_Mounting: Thru-Hole; DrillSize: Nominal, Rounded to nearest 0.05mm; PCB_Layout: Complies with Manufacturer's Recommendation.; Published: 25-Jun-2002; DatasheetDocument: 18-Dec-2001; PackageDocument: 18-Dec-2001; PackageReference: 52830-4215; Publisher: Altium Limited; ComponentLink1Description: Manufacturer Link; ComponentLink1URL: http://www.molex.com/; ComponentLink2Description: Datasheet; ComponentLink2URL: http://www.molex.com/cmc_upload/common_files/1212003_mx52830.pdf; ComponentLink3Description: Iges Model; ComponentLink3URL: http://www.molex.com/pdm_docs/igs/52830-4215_igs.zip
footprint 52830-4215 (Connector; PCB Jack, Thru-Hole; 1-Port, 4 Positions, 2 Loaded; Unshielded without Lightpipes; Right Angle)
signal-integrity model Modular Jack
pins: 1, 2

## 52830-4225
designator J?
Right Angle, Standard Profile, with Metal Peg PCB Jack; Ports: 1; Positions/Loaded: Port1 - 4/2; PerformanceCategory: 3; PCB_Mounting: Thru-Hole; DrillSize: Nominal, Rounded to nearest 0.05mm; PCB_Layout: Complies with Manufacturer's Recommendation.; Published: 25-Jun-2002; DatasheetDocument: 18-Dec-2001; PackageDocument: 18-Dec-2001; PackageReference: 52830-4225; Publisher: Altium Limited; ComponentLink1Description: Manufacturer Link; ComponentLink1URL: http://www.molex.com/; ComponentLink2Description: Datasheet; ComponentLink2URL: http://www.molex.com/cmc_upload/common_files/1212003_mx52830.pdf; ComponentLink3Description: Iges Model; ComponentLink3URL: http://www.molex.com/pdm_docs/igs/52830-4215_igs.zip
footprint 52830-4225 (Connector; PCB Jack, Thru-Hole; 1-Port, 4 Positions, 2 Loaded; Unshielded without Lightpipes; Right Angle)
signal-integrity model Modular Jack
pins: 1, 2

## 52830-4235
designator J?
Right Angle, Standard Profile, with Metal Peg PCB Jack; Ports: 1; Positions/Loaded: Port1 - 4/2; PerformanceCategory: 3; PCB_Mounting: Thru-Hole; DrillSize: Nominal, Rounded to nearest 0.05mm; PCB_Layout: Complies with Manufacturer's Recommendation.; Published: 25-Jun-2002; DatasheetDocument: 18-Dec-2001; PackageDocument: 18-Dec-2001; PackageReference: 52830-4235; Publisher: Altium Limited; ComponentLink1Description: Manufacturer Link; ComponentLink1URL: http://www.molex.com/; ComponentLink2Description: Datasheet; ComponentLink2URL: http://www.molex.com/cmc_upload/common_files/1212003_mx52830.pdf; ComponentLink3Description: Iges Model; ComponentLink3URL: http://www.molex.com/pdm_docs/igs/52830-4215_igs.zip
footprint 52830-4235 (Connector; PCB Jack, Thru-Hole; 1-Port, 4 Positions, 2 Loaded; Unshielded without Lightpipes; Right Angle)
signal-integrity model Modular Jack
pins: 1, 2

## 52830-4245
designator J?
Right Angle, Standard Profile, with Metal Peg PCB Jack; Ports: 1; Positions/Loaded: Port1 - 4/2; PerformanceCategory: 3; PCB_Mounting: Thru-Hole; DrillSize: Nominal, Rounded to nearest 0.05mm; PCB_Layout: Complies with Manufacturer's Recommendation.; Published: 25-Jun-2002; DatasheetDocument: 18-Dec-2001; PackageDocument: 18-Dec-2001; PackageReference: 52830-4245; Publisher: Altium Limited; ComponentLink1Description: Manufacturer Link; ComponentLink1URL: http://www.molex.com/; ComponentLink2Description: Datasheet; ComponentLink2URL: http://www.molex.com/cmc_upload/common_files/1212003_mx52830.pdf; ComponentLink3Description: Iges Model; ComponentLink3URL: http://www.molex.com/pdm_docs/igs/52830-4215_igs.zip
footprint 52830-4245 (Connector; PCB Jack, Thru-Hole; 1-Port, 4 Positions, 2 Loaded; Unshielded without Lightpipes; Right Angle)
signal-integrity model Modular Jack
pins: 1, 2

## 52830-4415
designator J?
Right Angle, Standard Profile, with Metal Peg PCB Jack; Ports: 1; Positions/Loaded: Port1 - 4/4; PerformanceCategory: 3; PCB_Mounting: Thru-Hole; DrillSize: Nominal, Rounded to nearest 0.05mm; PCB_Layout: Complies with Manufacturer's Recommendation.; Published: 25-Jun-2002; DatasheetDocument: 18-Dec-2001; PackageDocument: 18-Dec-2001; PackageReference: 52830-4415; Publisher: Altium Limited; ComponentLink1Description: Manufacturer Link; ComponentLink1URL: http://www.molex.com/; ComponentLink2Description: Datasheet; ComponentLink2URL: http://www.molex.com/cmc_upload/common_files/1212003_mx52830.pdf; ComponentLink3Description: Iges Model; ComponentLink3URL: http://www.molex.com/pdm_docs/igs/52830-4215_igs.zip
footprint 52830-4415 (Connector; PCB Jack, Thru-Hole; 1-Port, 4 Positions, 4 Loaded; Unshielded without Lightpipes; Right Angle)
signal-integrity model Modular Jack
pins: 1, 2, 3, 4

## 52830-4425
designator J?
Right Angle, Standard Profile, with Metal Peg PCB Jack; Ports: 1; Positions/Loaded: Port1 - 4/4; PerformanceCategory: 3; PCB_Mounting: Thru-Hole; DrillSize: Nominal, Rounded to nearest 0.05mm; PCB_Layout: Complies with Manufacturer's Recommendation.; Published: 25-Jun-2002; DatasheetDocument: 18-Dec-2001; PackageDocument: 18-Dec-2001; PackageReference: 52830-4425; Publisher: Altium Limited; ComponentLink1Description: Manufacturer Link; ComponentLink1URL: http://www.molex.com/; ComponentLink2Description: Datasheet; ComponentLink2URL: http://www.molex.com/cmc_upload/common_files/1212003_mx52830.pdf; ComponentLink3Description: Iges Model; ComponentLink3URL: http://www.molex.com/pdm_docs/igs/52830-4215_igs.zip
footprint 52830-4425 (Connector; PCB Jack, Thru-Hole; 1-Port, 4 Positions, 4 Loaded; Unshielded without Lightpipes; Right Angle)
signal-integrity model Modular Jack
pins: 1, 2, 3, 4

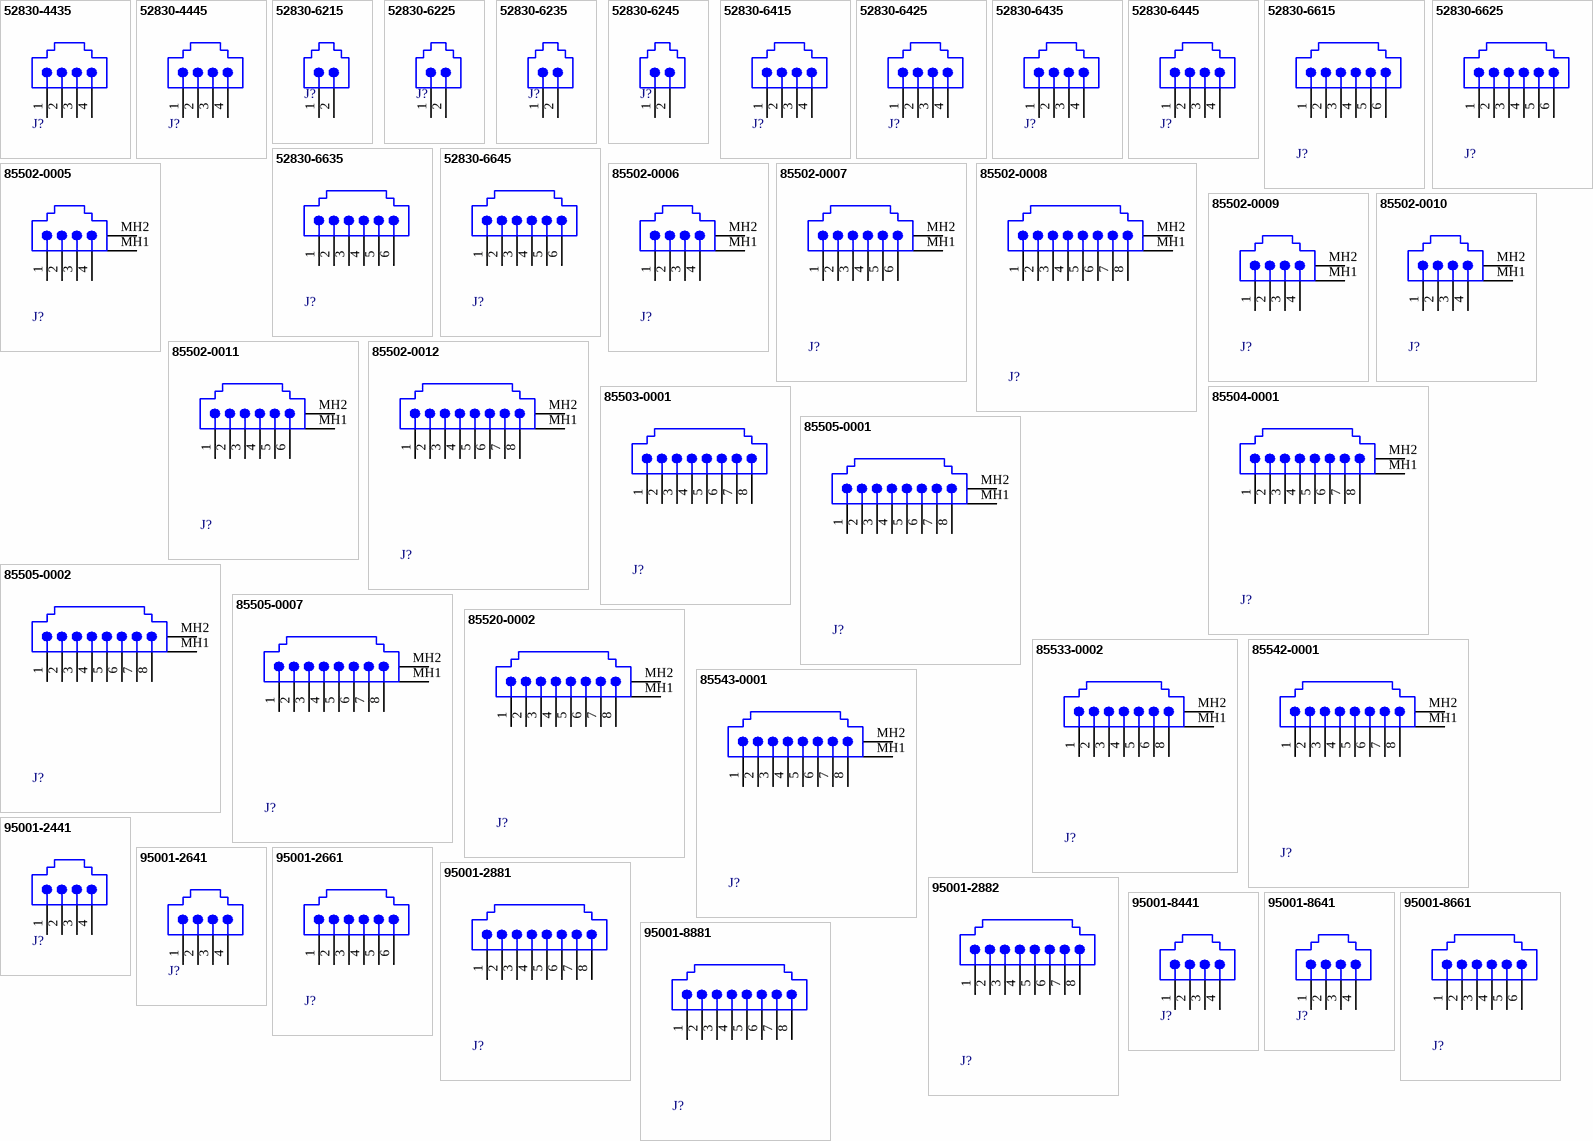
[diagram p23: symbols 52830-4435 to 95001-8881]

## 52830-4435
designator J?
Right Angle, Standard Profile, with Metal Peg PCB Jack; Ports: 1; Positions/Loaded: Port1 - 4/4; PerformanceCategory: 3; PCB_Mounting: Thru-Hole; DrillSize: Nominal, Rounded to nearest 0.05mm; PCB_Layout: Complies with Manufacturer's Recommendation.; Published: 25-Jun-2002; DatasheetDocument: 18-Dec-2001; PackageDocument: 18-Dec-2001; PackageReference: 52830-4435; Publisher: Altium Limited; ComponentLink1Description: Manufacturer Link; ComponentLink1URL: http://www.molex.com/; ComponentLink2Description: Datasheet; ComponentLink2URL: http://www.molex.com/cmc_upload/common_files/1212003_mx52830.pdf; ComponentLink3Description: Iges Model; ComponentLink3URL: http://www.molex.com/pdm_docs/igs/52830-4215_igs.zip
footprint 52830-4435 (Connector; PCB Jack, Thru-Hole; 1-Port, 4 Positions, 4 Loaded; Unshielded without Lightpipes; Right Angle)
signal-integrity model Modular Jack
pins: 1, 2, 3, 4

## 52830-4445
designator J?
Right Angle, Standard Profile, with Metal Peg PCB Jack; Ports: 1; Positions/Loaded: Port1 - 4/4; PerformanceCategory: 3; PCB_Mounting: Thru-Hole; DrillSize: Nominal, Rounded to nearest 0.05mm; PCB_Layout: Complies with Manufacturer's Recommendation.; Published: 25-Jun-2002; DatasheetDocument: 18-Dec-2001; PackageDocument: 18-Dec-2001; PackageReference: 52830-4445; Publisher: Altium Limited; ComponentLink1Description: Manufacturer Link; ComponentLink1URL: http://www.molex.com/; ComponentLink2Description: Datasheet; ComponentLink2URL: http://www.molex.com/cmc_upload/common_files/1212003_mx52830.pdf; ComponentLink3Description: Iges Model; ComponentLink3URL: http://www.molex.com/pdm_docs/igs/52830-4215_igs.zip
footprint 52830-4445 (Connector; PCB Jack, Thru-Hole; 1-Port, 4 Positions, 4 Loaded; Unshielded without Lightpipes; Right Angle)
signal-integrity model Modular Jack
pins: 1, 2, 3, 4

## 52830-6215
designator J?
Right Angle, Standard Profile, with Metal Peg PCB Jack; Ports: 1; Positions/Loaded: Port1 - 6/2; PerformanceCategory: 3; PCB_Mounting: Thru-Hole; DrillSize: Nominal, Rounded to nearest 0.05mm; PCB_Layout: Complies with Manufacturer's Recommendation.; Published: 25-Jun-2002; DatasheetDocument: 18-Dec-2001; PackageDocument: 18-Dec-2001; PackageReference: 52830-6215; Publisher: Altium Limited; ComponentLink1Description: Manufacturer Link; ComponentLink1URL: http://www.molex.com/; ComponentLink2Description: Datasheet; ComponentLink2URL: http://www.molex.com/cmc_upload/common_files/1212003_mx52830.pdf; ComponentLink3Description: Iges Model; ComponentLink3URL: http://www.molex.com/pdm_docs/igs/52830-4215_igs.zip
footprint 52830-6215 (Connector; PCB Jack, Thru-Hole; 1-Port, 6 Positions, 2 Loaded; Unshielded without Lightpipes; Right Angle)
signal-integrity model Modular Jack
pins: 1, 2

## 52830-6225
designator J?
Right Angle, Standard Profile, with Metal Peg PCB Jack; Ports: 1; Positions/Loaded: Port1 - 6/2; PerformanceCategory: 3; PCB_Mounting: Thru-Hole; DrillSize: Nominal, Rounded to nearest 0.05mm; PCB_Layout: Complies with Manufacturer's Recommendation.; Published: 25-Jun-2002; DatasheetDocument: 18-Dec-2001; PackageDocument: 18-Dec-2001; PackageReference: 52830-6225; Publisher: Altium Limited; ComponentLink1Description: Manufacturer Link; ComponentLink1URL: http://www.molex.com/; ComponentLink2Description: Datasheet; ComponentLink2URL: http://www.molex.com/cmc_upload/common_files/1212003_mx52830.pdf; ComponentLink3Description: Iges Model; ComponentLink3URL: http://www.molex.com/pdm_docs/igs/52830-4215_igs.zip
footprint 52830-6225 (Connector; PCB Jack, Thru-Hole; 1-Port, 6 Positions, 2 Loaded; Unshielded without Lightpipes; Right Angle)
signal-integrity model Modular Jack
pins: 1, 2

## 52830-6235
designator J?
Right Angle, Standard Profile, with Metal Peg PCB Jack; Ports: 1; Positions/Loaded: Port1 - 6/2; PerformanceCategory: 3; PCB_Mounting: Thru-Hole; DrillSize: Nominal, Rounded to nearest 0.05mm; PCB_Layout: Complies with Manufacturer's Recommendation.; Published: 25-Jun-2002; DatasheetDocument: 18-Dec-2001; PackageDocument: 18-Dec-2001; PackageReference: 52830-6235; Publisher: Altium Limited; ComponentLink1Description: Manufacturer Link; ComponentLink1URL: http://www.molex.com/; ComponentLink2Description: Datasheet; ComponentLink2URL: http://www.molex.com/cmc_upload/common_files/1212003_mx52830.pdf; ComponentLink3Description: Iges Model; ComponentLink3URL: http://www.molex.com/pdm_docs/igs/52830-4215_igs.zip
footprint 52830-6235 (Connector; PCB Jack, Thru-Hole; 1-Port, 6 Positions, 2 Loaded; Unshielded without Lightpipes; Right Angle)
signal-integrity model Modular Jack
pins: 1, 2

## 52830-6245
designator J?
Right Angle, Standard Profile, with Metal Peg PCB Jack; Ports: 1; Positions/Loaded: Port1 - 6/2; PerformanceCategory: 3; PCB_Mounting: Thru-Hole; DrillSize: Nominal, Rounded to nearest 0.05mm; PCB_Layout: Complies with Manufacturer's Recommendation.; Published: 25-Jun-2002; DatasheetDocument: 18-Dec-2001; PackageDocument: 18-Dec-2001; PackageReference: 52830-6245; Publisher: Altium Limited; ComponentLink1Description: Manufacturer Link; ComponentLink1URL: http://www.molex.com/; ComponentLink2Description: Datasheet; ComponentLink2URL: http://www.molex.com/cmc_upload/common_files/1212003_mx52830.pdf; ComponentLink3Description: Iges Model; ComponentLink3URL: http://www.molex.com/pdm_docs/igs/52830-4215_igs.zip
footprint 52830-6245 (Connector; PCB Jack, Thru-Hole; 1-Port, 6 Positions, 2 Loaded; Unshielded without Lightpipes; Right Angle)
signal-integrity model Modular Jack
pins: 1, 2

## 52830-6415
designator J?
Right Angle, Standard Profile, with Metal Peg PCB Jack; Ports: 1; Positions/Loaded: Port1 - 6/4; PerformanceCategory: 3; PCB_Mounting: Thru-Hole; DrillSize: Nominal, Rounded to nearest 0.05mm; PCB_Layout: Complies with Manufacturer's Recommendation.; Published: 25-Jun-2002; DatasheetDocument: 18-Dec-2001; PackageDocument: 18-Dec-2001; PackageReference: 52830-6415; Publisher: Altium Limited; ComponentLink1Description: Manufacturer Link; ComponentLink1URL: http://www.molex.com/; ComponentLink2Description: Datasheet; ComponentLink2URL: http://www.molex.com/cmc_upload/common_files/1212003_mx52830.pdf; ComponentLink3Description: Iges Model; ComponentLink3URL: http://www.molex.com/pdm_docs/igs/52830-4215_igs.zip
footprint 52830-6415 (Connector; PCB Jack, Thru-Hole; 1-Port, 6 Positions, 4 Loaded; Unshielded without Lightpipes; Right Angle)
signal-integrity model Modular Jack
pins: 1, 2, 3, 4